# Altium integrated library MCU_Library.IntLib: 4 symbols
Pins are listed as number, name and electrical type; pins without a type are passive.

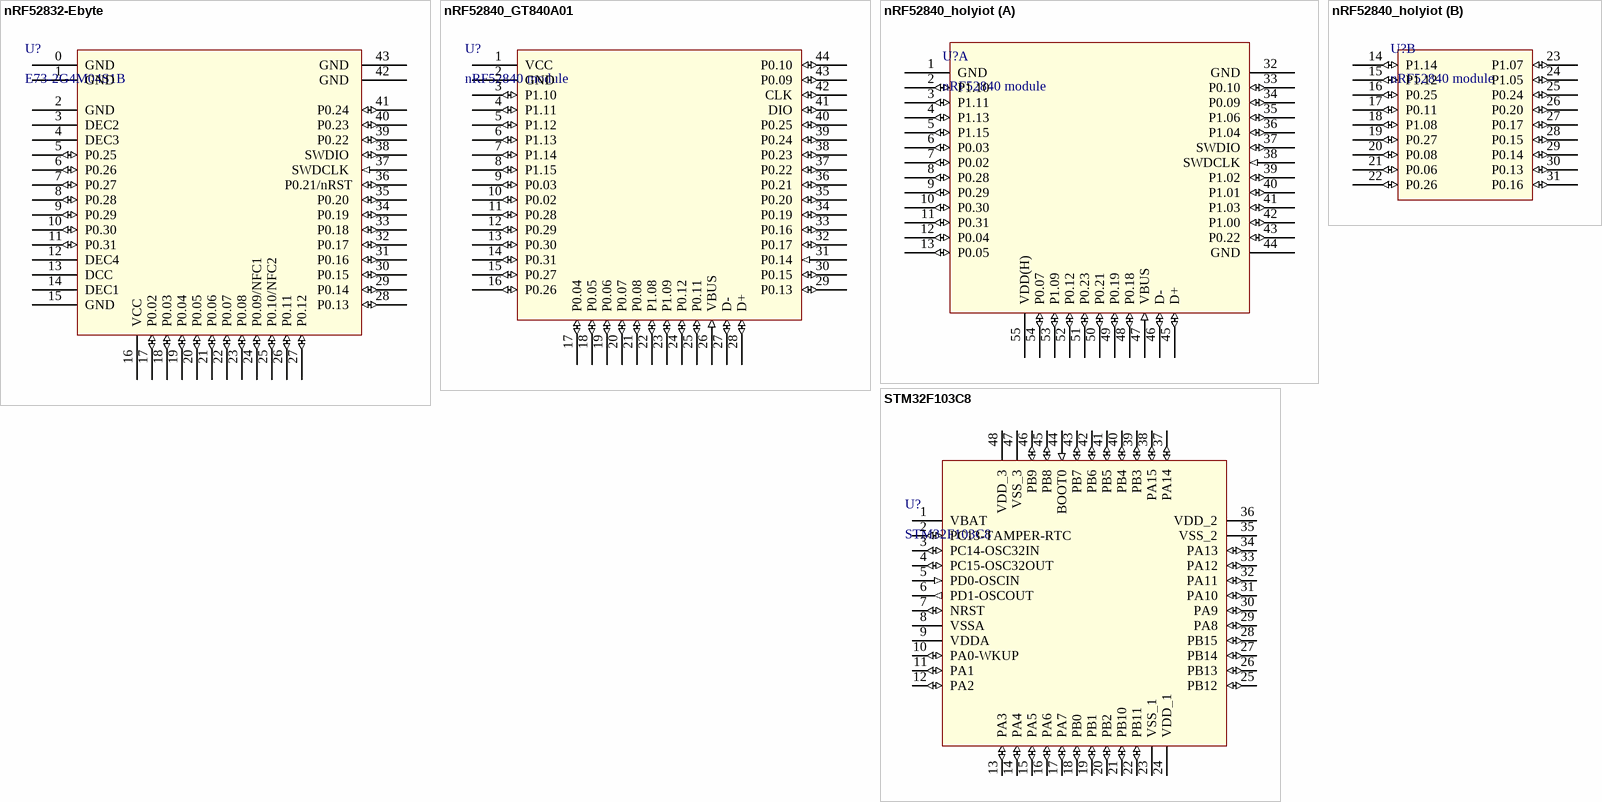
[diagram p0: symbols nRF52832-Ebyte to STM32F103C8]

## nRF52832-Ebyte
designator U?, comment E73-2G4M04S1B
Ebyte E73-2G4M04S-52832; Part Number: E73-2G4M04S1B; Type: nRF52832 module; Manufacturer: EBYTE
footprint nRF52832-Ebyte
pins: 0 GND  (power), 1 GND  (power), 2 GND  (power), 3 DEC2, 4 DEC3, 5 P0.25  (io), 6 P0.26  (io), 7 P0.27  (io), 8 P0.28  (io), 9 P0.29  (io), 10 P0.30  (io), 11 P0.31  (io), 12 DEC4, 13 DCC , 14 DEC1, 15 GND  (power), 16 VCC  (power), 17 P0.02  (io), 18 P0.03  (io), 19 P0.04  (io), 20 P0.05  (io), 21 P0.06  (io), 22 P0.07  (io), 23 P0.08  (io), 24 P0.09/NFC1 (io), 25 P0.10/NFC2 (io), 26 P0.11  (io), 27 P0.12  (io), 28 P0.13  (io), 29 P0.14  (io), 30 P0.15  (io), 31 P0.16  (io), 32 P0.17  (io), 33 P0.18  (io), 34 P0.19  (io), 35 P0.20  (io), 36 P0.21/nRST (io), 37 SWDCLK  (in), 38 SWDIO  (io), 39 P0.22  (io), 40 P0.23  (io), 41 P0.24  (io), 42 GND  (power), 43 GND  (power)

## nRF52840_GT840A01
designator U?, comment nRF52840 module
nRF52840 module GT840A_01
footprint nRF52840_GT840A01
pins: 1 VCC (power), 2 GND (power), 3 P1.10 (io), 4 P1.11 (io), 5 P1.12 (io), 6 P1.13 (io), 7 P1.14 (io), 8 P1.15 (io), 9 P0.03 (io), 10 P0.02 (io), 11 P0.28 (io), 12 P0.29 (io), 13 P0.30 (io), 14 P0.31 (io), 15 P0.27 (io), 16 P0.26 (io), 17 P0.04 (io), 18 P0.05 (io), 19 P0.06 (io), 20 P0.07 (io), 21 P0.08 (io), 22 P1.08 (io), 23 P1.09 (io), 24 P0.12 (io), 25 P0.11 (io), 26 VBUS (in), 27 D- (io), 28 D+ (io), 29 P0.13 (io), 30 P0.15 (io), 31 P0.14 (in), 32 P0.17 (io), 33 P0.16 (io), 34 P0.19 (io), 35 P0.20 (io), 36 P0.21 (io), 37 P0.22 (io), 38 P0.23 (io), 39 P0.24 (io), 40 P0.25 (io), 41 DIO (io), 42 CLK (io), 43 P0.09 (io), 44 P0.10 (io)

## nRF52840_holyiot
designator U?, comment nRF52840 module
nRF52840 holyiot module
footprint nRF52840_holyiot
part A pins: 1 GND (power), 2 P1.10 (io), 3 P1.11 (io), 4 P1.13 (io), 5 P1.15 (io), 6 P0.03 (io), 7 P0.02 (io), 8 P0.28 (io), 9 P0.29 (io), 10 P0.30 (io), 11 P0.31 (io), 12 P0.04 (io), 13 P0.05 (io), 32 GND (power), 33 P0.10 (io), 34 P0.09 (io), 35 P1.06 (io), 36 P1.04 (io), 37 SWDIO (io), 38 SWDCLK (in), 39 P1.02 (io), 40 P1.01 (io), 41 P1.03 (io), 42 P1.00 (io), 43 P0.22 (io), 44 GND (power), 45 D+ (io), 46 D- (io), 47 VBUS (in), 48 P0.18 (io), 49 P0.19 (io), 50 P0.21 (io), 51 P0.23 (io), 52 P0.12 (io), 53 P1.09 (io), 54 P0.07 (io), 55 VDD(H) (power)
part B pins: 14 P1.14 (io), 15 P1.12 (io), 16 P0.25 (io), 17 P0.11 (io), 18 P1.08 (io), 19 P0.27 (io), 20 P0.08 (io), 21 P0.06 (io), 22 P0.26 (io), 23 P1.07 (io), 24 P1.05 (io), 25 P0.24 (io), 26 P0.20 (io), 27 P0.17 (io), 28 P0.15 (io), 29 P0.14 (io), 30 P0.13 (io), 31 P0.16 (io)

## STM32F103C8
designator U?
LQFP48, Cortex M3 MCU
footprint LQFN48 (STM32F103C8)
pins: 1 VBAT (power), 2 PC13-TAMPER-RTC (io), 3 PC14-OSC32IN (io), 4 PC15-OSC32OUT (io), 5 PD0-OSCIN (in), 6 PD1-OSCOUT (out), 7 NRST (io), 8 VSSA (power), 9 VDDA (power), 10 PA0-WKUP (io), 11 PA1 (io), 12 PA2 (io), 13 PA3 (io), 14 PA4 (io), 15 PA5 (io), 16 PA6 (io), 17 PA7 (io), 18 PB0 (io), 19 PB1 (io), 20 PB2 (io), 21 PB10 (io), 22 PB11 (io), 23 VSS_1 (power), 24 VDD_1 (power), 25 PB12 (io), 26 PB13 (io), 27 PB14 (io), 28 PB15 (io), 29 PA8 (io), 30 PA9 (io), 31 PA10 (io), 32 PA11 (io), 33 PA12 (io), 34 PA13 (io), 35 VSS_2 (power), 36 VDD_2 (power), 37 PA14 (io), 38 PA15 (io), 39 PB3 (io), 40 PB4 (io), 41 PB5 (io), 42 PB6 (io), 43 PB7 (io), 44 BOOT0 (in), 45 PB8 (io), 46 PB9 (io), 47 VSS_3 (power), 48 VDD_3 (power)